# Altium footprint library ESC_FOOTPRINTS.PcbLib: 26 footprints (part 1 of 2)
Each footprint in its own frame and in the unit in brackets; x right, y up, seen from the top. Pads: shape width x height; smd on the part's side, far side on the other; paste and mask are expansions set on the pad; w line width, h text height; cw(c..) or ccw(c..) is an arc to the next point about the centre after c.
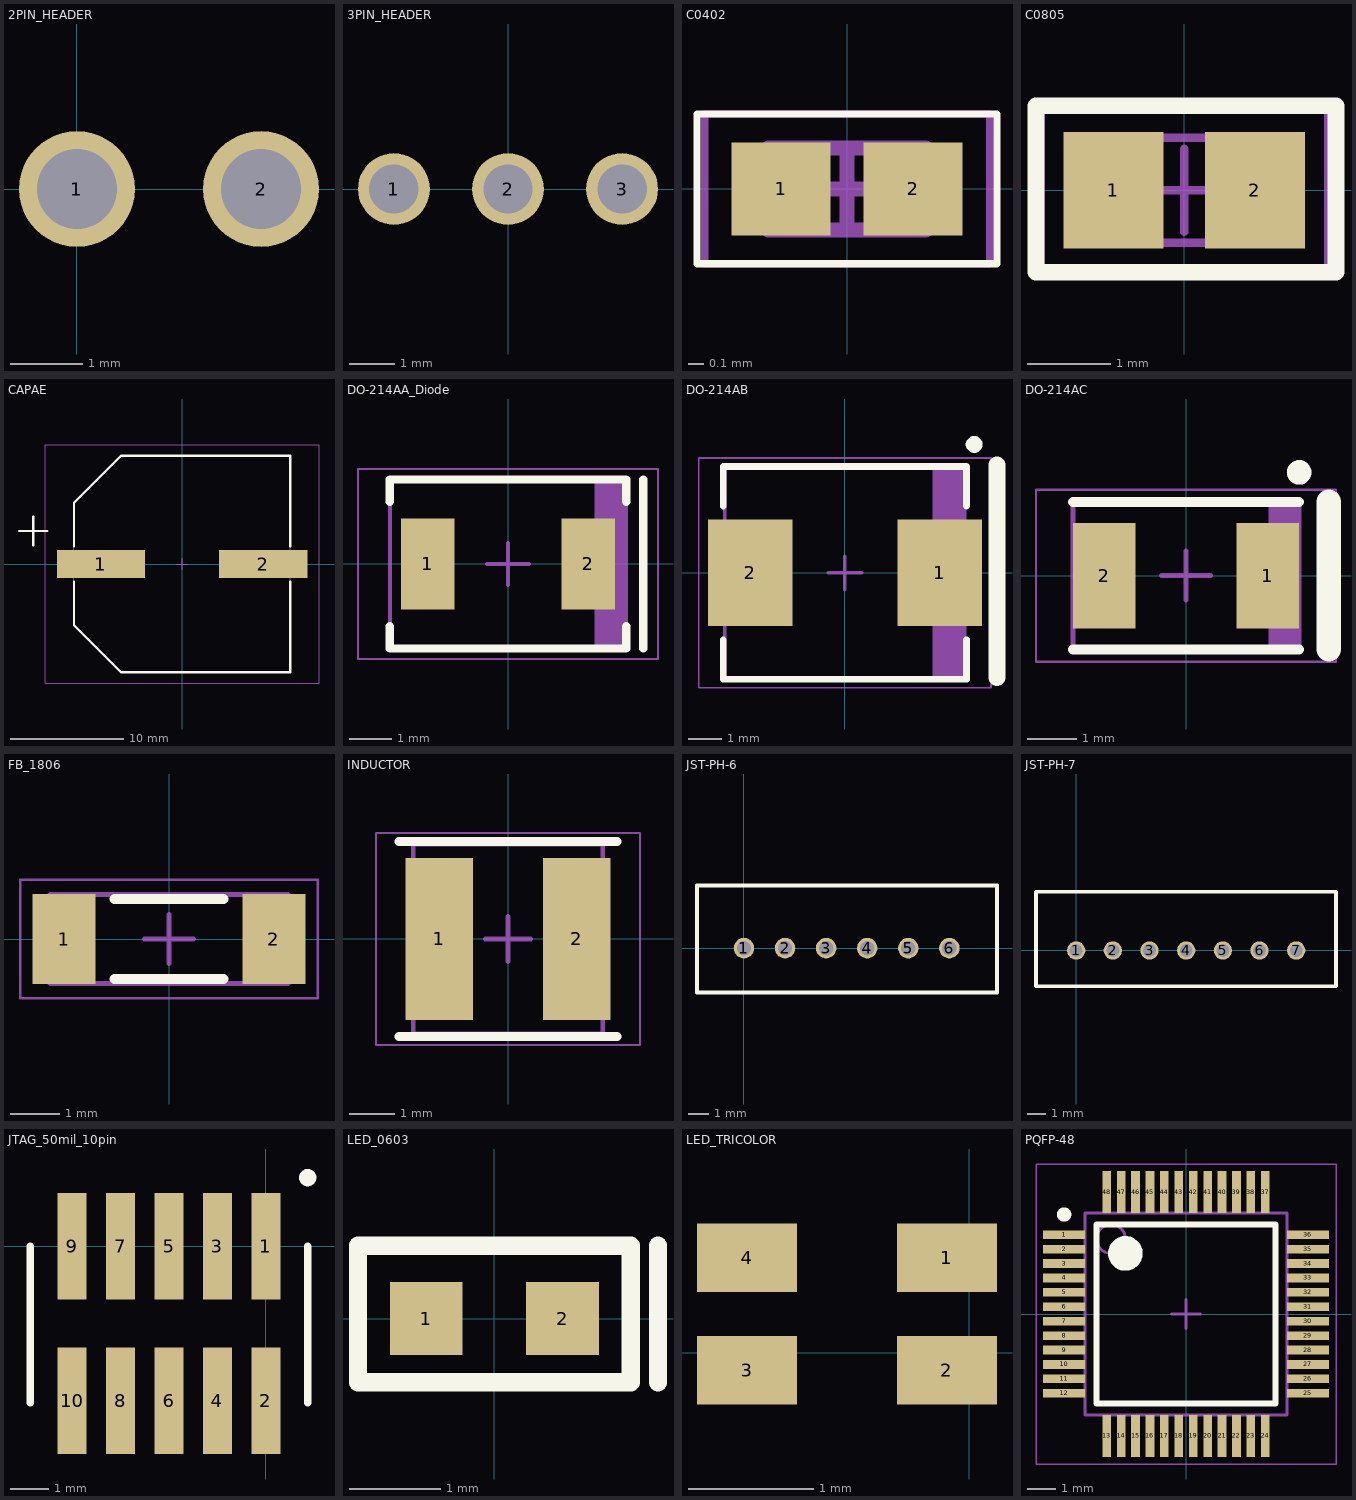
[diagram p0: the footprints below, top view; thin cyan lines are the x and y axes]

## 2PIN_HEADER [mm]
pads (2):
  round 1.6 hole 1.1: 1(0,0) 2(2.54,0)
3D body "Pin Header 1x2 TH Pitch 2.54mm.stp": height 9.5, standoff -3.2, extent -1.27,-1.27 3.81,1.27

## 3PIN_HEADER [mm]
pads (3):
  round 1.6 hole 1.1: 1(-2.54,0) 2(0,0) 3(2.54,0)
3D body "Pin Header 1x3 TH Pitch 2.54mm.stp": height 9.5, standoff -3.2, extent -3.81,-1.27 3.81,1.27

## C0402 [mm] "Chip Capacitor, 2-Leads, Body 1.00x0.50mm, IPC Medium Density"
height 0.55
pads (2):
  rect 0.66x0.62 smd: 1(-0.44,0) 2(0.44,0)
Top Overlay:
  lines w0.05: -1,-0.5 1,-0.5 1,0.5 -1,0.5 -1,-0.5
Mechanical 13:
  lines w0.1: -0.525,-0.275 -0.525,0.275 0.525,0.275 0.525,-0.275 -0.525,-0.275
Mechanical 15:
  lines w0.05: -0.95,-0.5 -0.95,0.5 0.95,0.5 0.95,-0.5 -0.95,-0.5
  lines w0.1: -0.275,0 0.275,0 ; 0,-0.275 0,0.275
3D body "CAPC1005X06N.step": height 0.55, standoff 0, extent -0.525,-0.275 0.525,0.275

## C0805 [mm] "Chip Capacitor, 2-Leads, Body 2.00x1.25mm, IPC Medium Density"
height 1.35
pads (2):
  rect 1.2x1.4 smd: 1(-0.85,0) 2(0.85,0)
Top Overlay:
  lines w0.2: -1.778,-0.984 -1.778,1.016 1.822,1.016 1.822,-0.984 -1.778,-0.984
Mechanical 13:
  lines w0.1: -1.05,-0.63 1.05,-0.63 1.05,0.63 -1.05,0.63 -1.05,-0.63
Mechanical 15:
  lines w0.05: -1.7,-0.95 1.7,-0.95 1.7,0.95 -1.7,0.95 -1.7,-0.95
  lines w0.1: -0.5,0 0.5,0 ; 0,-0.5 0,0.5
3D body "CAPC2012X14N.step": height 1.35, standoff 0, extent -1.05,-0.63 1.05,0.63

## CAPAE [mm] "Aluminum Electrolytic Capacitor, Body 19.00x19.00x17.00mm, IPC Low Density"
height 17
pads (2):
  rect 7.85x2.5 smd: 1(-7.2,0) 2(7.2,0)
Top Overlay:
  lines w0.2: -14.478,2.921 -11.938,2.921 ; -13.208,1.651 -13.208,4.191 ; -9.6,-1.55 -9.6,-5.425 -5.425,-9.6 9.6,-9.6 9.6,-1.55 ; -9.6,1.55 -9.6,5.425 -5.425,9.6 9.6,9.6 9.6,1.55
Mechanical 13:
  lines w0.1: -9.6,-5.425 -9.6,5.425 -5.425,9.6 9.6,9.6 9.6,-9.6 -5.425,-9.6 -9.6,-5.425
Mechanical 15:
  lines w0.05: -12.15,-10.6 12.15,-10.6 12.15,10.6 -12.15,10.6 -12.15,-10.6
  lines w0.1: -0.5,0 0.5,0 ; 0,-0.5 0,0.5
3D body "CAPAE201190X170M.step": height 17, standoff -1, extent -10.05,-9.6 10.05,9.6

## DO-214AA_Diode [mm] "Molded Diode, 2-Leads, Body 5.33x3.62mm, IPC Medium Density"
height 2.62
pads (2):
  rect 1.27x2.15 smd: 1(-1.9,0) 2(1.9,0)
Top Overlay:
  lines w0.2: -2.8,-1.475 -2.8,-2 2.8,-2 2.8,-1.475 ; -2.8,1.475 -2.8,2 2.8,2 2.8,1.475 ; 3.2,-2 3.2,2
Mechanical 13:
  rectangle: 2.043,-1.97 2.795,1.97
  lines w0.1: -2.795,-1.97 -2.795,1.97 2.795,1.97 2.795,-1.97 -2.795,-1.97
Mechanical 15:
  lines w0.05: -3.55,-2.25 -3.55,2.25 3.55,2.25 3.55,-2.25 -3.55,-2.25
  lines w0.1: -0.5,0 0.5,0 ; 0,-0.5 0,0.5
3D body "DIOM5336X26N.step": height 2.62, standoff 0, extent -3.015,-1.97 3.015,1.97

## DO-214AB [mm] "Molded Diode, 2-Leads, Body 6.85x5.90mm, IPC Medium Density"
height 2.62
pads (2):
  rect 2.5x3.15 smd: 1(2.8,0) 2(-2.8,0)
Top Overlay:
  circle w0.25: c3.825,3.8 r0.125
  lines w0.2: -3.6,-1.975 -3.6,-3.15 3.6,-3.15 3.6,-1.975 ; -3.6,1.975 -3.6,3.15 3.6,3.15 3.6,1.975
  lines w0.5: 4.5,-3.1 4.5,3.2
Mechanical 13:
  rectangle: 2.599,-3.11 3.555,3.11
  lines w0.1: -3.555,-3.11 3.555,-3.11 3.555,3.11 -3.555,3.11 -3.555,-3.11
Mechanical 15:
  lines w0.05: -4.325,-3.4 4.325,-3.4 4.325,3.4 -4.325,3.4 -4.325,-3.4
  lines w0.1: -0.5,0 0.5,0 ; 0,-0.5 0,0.5
3D body "DIOM6959X26N.step": height 2.62, standoff 0, extent -3.775,-3.11 3.775,3.11

## DO-214AC [mm] "Molded Diode, 2-Leads, Body 4.30x2.60mm, IPC Medium Density"
height 2.4
pads (2):
  rect 1.27x2.15 smd: 1(1.665,0) 2(-1.665,0)
Top Overlay:
  circle w0.25: c2.3,2.1 r0.125
  lines w0.2: -2.3,-1.5 2.3,-1.5 ; -2.3,1.5 2.3,1.5
  lines w0.5: 2.9,-1.5 2.9,1.5
Mechanical 13:
  rectangle: 1.681,-1.46 2.3,1.46
  lines w0.1: -2.3,-1.46 -2.3,1.46 2.3,1.46 2.3,-1.46 -2.3,-1.46
Mechanical 15:
  lines w0.05: -3.05,-1.75 -3.05,1.75 3.05,1.75 3.05,-1.75 -3.05,-1.75
  lines w0.1: -0.5,0 0.5,0 ; 0,-0.5 0,0.5
3D body "DIOM4326X24N.step": height 2.4, standoff 0, extent -2.52,-1.46 2.52,1.46

## FB_1806 [mm] "Chip Inductor, 2-Leads, Body 4.50x1.60mm, IPC Medium Density"
height 1.3
pads (2):
  rect 1.27x1.82 smd: 1(-2.12,0) 2(2.12,0)
Top Overlay:
  lines w0.2: -1.1,-0.81 1.1,-0.81 ; -1.1,0.81 1.1,0.81
Mechanical 13:
  lines w0.1: -2.4,-0.9 2.4,-0.9 2.4,0.9 -2.4,0.9 -2.4,-0.9
Mechanical 15:
  lines w0.05: -3,-1.2 3,-1.2 3,1.2 -3,1.2 -3,-1.2
  lines w0.1: -0.5,0 0.5,0 ; 0,-0.5 0,0.5
3D body "INDC4516X13N.step": height 1.3, standoff 0, extent -2.4,-0.9 2.4,0.9

## INDUCTOR [mm] "Precision Wire Wound Inductor, 2-Leads, Body 4.00x4.00mm, IPC Medium Density"
height 2.5
pads (2):
  rect 1.5x3.6 smd: 1(-1.524,0) 2(1.524,0)
Top Overlay:
  lines w0.2: -2.413,-2.159 2.413,-2.159 ; -2.413,2.159 2.413,2.159
Mechanical 13:
  lines w0.1: -2.1,-2.1 2.1,-2.1 2.1,2.1 -2.1,2.1 -2.1,-2.1
Mechanical 15:
  lines w0.05: -2.925,-2.35 2.925,-2.35 2.925,2.35 -2.925,2.35 -2.925,-2.35
  lines w0.1: -0.5,0 0.5,0 ; 0,-0.5 0,0.5
3D body "INDP4040X25N.step": height 2.6, standoff 0, extent -2.1,-2 2.1,2

## JST-PH-6 [mm]
pads (6):
  round 1 hole 0.7: 1(0,0) 2(2,0) 3(4,0) 4(6,0) 5(8,0) 6(10,0)
Top Overlay:
  lines w0.2: -2.286,-2.159 -2.286,3.048 12.319,3.048 12.319,-2.159 -2.286,-2.159
3D body "B6B-PH-K-S.STEP": height 6, standoff -3.4, extent -1.962,-1.742 11.938,2.758

## JST-PH-7 [mm]
pads (7):
  round 1 hole 0.7: 1(0,0) 2(2,0) 3(4,0) 4(6,0) 5(8,0) 6(10,0) 7(12,0)
Top Overlay:
  lines w0.2: -2.19,-1.96 -2.19,3.21 14.17,3.21 14.17,-1.96 -2.19,-1.96
3D body "JST - PH - Thru (V) - 7Pin - 2.00mm.stp": height 5.89, standoff -3.05, extent -1.94,-1.707 13.921,2.967

## JTAG_50mil_10pin [mil]
pads (10):
  rect 30x110 smd: 1(0,0) 2(0,-159.84) 3(-50,0) 4(-50,-159.84) 5(-100,0) 6(-100,-159.84) 7(-150,0) 8(-150,-159.84) 9(-200,0) 10(-200,-159.84)
Top Overlay:
  circle w10: c43.31,70.87 r3.94
  lines w7.87: -243.31,-161.42 -243.31,0 ; 43.31,-161.42 43.31,0
3D body "FTSH-105-01-L-DV-K-TR.stp": height 240.75, standoff -0.25, extent -223.42,-193.74 26.57,36.26

## LED_0603 [mm]
pads (2):
  rect 0.8x0.8 smd: 1(-0.75,0) 2(0.75,0)
Top Overlay:
  lines w0.2: 1.8,-0.7 1.8,0.8 ; -1.5,-0.7 1.5,-0.7 1.5,0.8 -1.5,0.8 -1.5,-0.7

## LED_TRICOLOR [mm]
pads (4):
  rect 0.8x0.55 smd: 1(-0.178,0.762) 2(-0.178,-0.138) 3(-1.778,-0.138) 4(-1.778,0.762)

## PQFP-48 [mm] "TSQFP, 48-Leads, Body 7.00x7.00mm, Pitch 0.50mm, IPC Medium Density"
height 1.6
pads (48):
  rect 1.45x0.3 smd: 1(-4.225,2.75) 2(-4.225,2.25) 3(-4.225,1.75) 4(-4.225,1.25) 5(-4.225,0.75) 6(-4.225,0.25) 7(-4.225,-0.25) 8(-4.225,-0.75) 9(-4.225,-1.25) 10(-4.225,-1.75) 11(-4.225,-2.25) 12(-4.225,-2.75) 25(4.225,-2.75) 26(4.225,-2.25) 27(4.225,-1.75) 28(4.225,-1.25) 29(4.225,-0.75) 30(4.225,-0.25) 31(4.225,0.25) 32(4.225,0.75) 33(4.225,1.25) 34(4.225,1.75) 35(4.225,2.25) 36(4.225,2.75)
  rect 0.3x1.45 smd: 13(-2.75,-4.225) 14(-2.25,-4.225) 15(-1.75,-4.225) 16(-1.25,-4.225) 17(-0.75,-4.225) 18(-0.25,-4.225) 19(0.25,-4.225) 20(0.75,-4.225) 21(1.25,-4.225) 22(1.75,-4.225) 23(2.25,-4.225) 24(2.75,-4.225) 37(2.75,4.225) 38(2.25,4.225) 39(1.75,4.225) 40(1.25,4.225) 41(0.75,4.225) 42(0.25,4.225) 43(-0.25,4.225) 44(-0.75,4.225) 45(-1.25,4.225) 46(-1.75,4.225) 47(-2.25,4.225) 48(-2.75,4.225)
Top Overlay:
  circle w0.25: c-4.225,3.45 r0.125
  circle w0.6: c-2.1,2.1 r0.3
  lines w0.2: -3.1,-3.1 -3.1,3.1 3.1,3.1 3.1,-3.1 -3.1,-3.1
Mechanical 13:
  circle w0.1: c-2.6,2.6 r0.5
  lines w0.1: -3.5,-3.5 -3.5,3.5 3.5,3.5 3.5,-3.5 -3.5,-3.5
Mechanical 15:
  lines w0.05: -5.2,-5.2 -5.2,5.2 5.2,5.2 5.2,-5.2 -5.2,-5.2
  lines w0.1: -0.5,0 0.5,0 ; 0,-0.5 0,0.5
3D body "TSQFP50P900X900X160-48N.step": height 1.6, standoff 0, extent -4.5,-4.5 4.5,4.5